# Altium footprint library Crystal.PcbLib: 10 footprints
Each footprint in its own frame and in the unit in brackets; x right, y up, seen from the top. Pads: shape width x height; smd on the part's side, far side on the other; paste and mask are expansions set on the pad; w line width, h text height; cw(c..) or ccw(c..) is an arc to the next point about the centre after c.
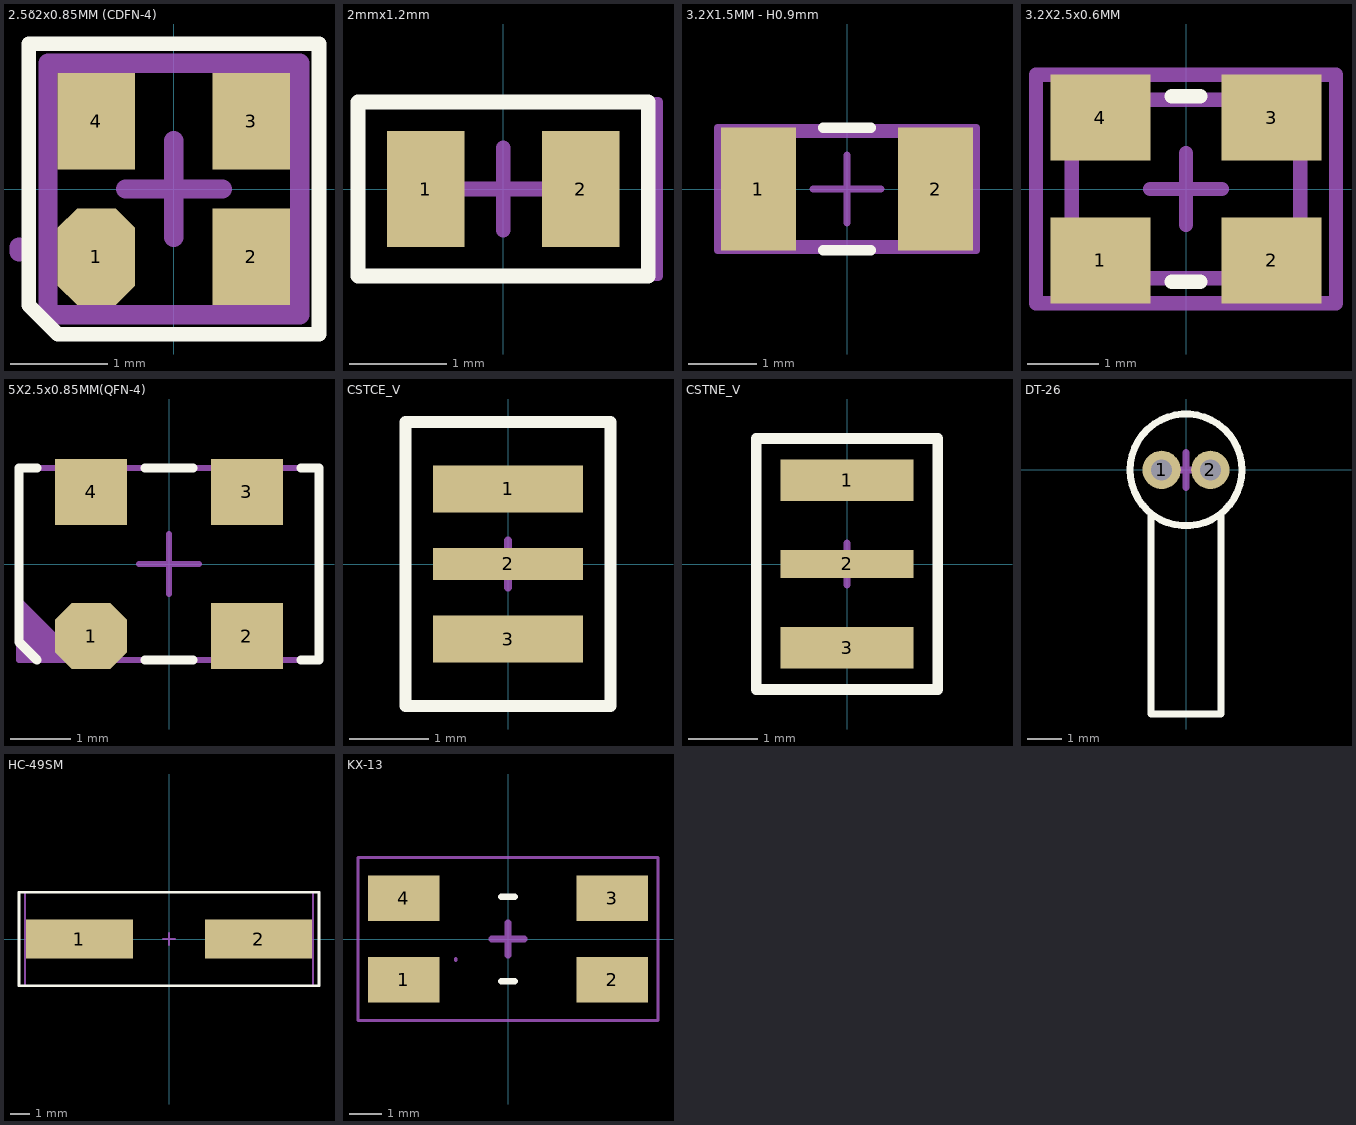
[diagram p0: the footprints below, top view; thin cyan lines are the x and y axes]

## 2.5õ2x0.85MM (CDFN-4) [mm]
pads (4):
  oct 0.8x1 smd: 1(-0.8,-0.7)
  rect 0.8x1 smd: 2(0.8,-0.7) 3(0.8,0.7) 4(-0.8,0.7)
Top Overlay:
  lines w0.153: -1.5,-1.2 -1.5,1.5 1.5,1.5 1.5,-1.5 -1.2,-1.5 -1.5,-1.2
Top Assembly:
  lines w0.2: -1.6,-0.65 -1.6,-0.6 ; -1.3,-1.3 -1.3,1.3 1.3,1.3 1.3,-1.3 -1.3,-1.3
  text ".Designator" at -1.1,-0.4 h1
Top Courtyard:
  lines w0.2: -0.5,0 0.5,0 ; 0,-0.5 0,0.5 ; -1.3,-1.3 -1.3,1.3 1.3,1.3 1.3,-1.3 -1.3,-1.3
3D body "User Library-ASDK_series_ABRACON.STEP": height 0.95, standoff 0, extent -1.25,-1 1.25,1

## 2mmx1.2mm [mm]
pads (2):
  rect 0.8x1.2 smd: 1(-0.8,0) 2(0.8,0)
Top Overlay:
  lines w0.153: -1.5,-0.9 -1.5,0.9 1.5,0.9 1.5,-0.9 -1.5,-0.9
Top Assembly:
  lines w0.1: -1.5,-0.9 -1.5,0.9 1.6,0.9 1.6,-0.9 -1.5,-0.9
  text "'.Designator'" at -4.532,-0.333 h0.8
Top Courtyard:
  lines w0.1: -1.5,-0.9 -1.5,0.9 1.5,0.9 1.5,-0.9 -1.5,-0.9
  lines w0.153: -0.425,0 0.425,0 ; 0,-0.425 0,0.425
3D body "ABS06-32.768KHZ-T--3DModel-STEP-400430.STEP": height 0.61, standoff 0, extent -1.003,-0.597 1.003,0.597

## 3.2X1.5MM - H0.9mm [mm] "ABS07 Series Crystal, Body 3.2x1.5mm 0.9mm hight"
height 0.9
pads (2):
  rect 1.1x1.8 smd: 1(-1.3,0) 2(1.3,0)
Top Overlay:
  lines w0.153: -0.35,-0.9 0.35,-0.9 ; -0.35,0.9 0.35,0.9
Top Assembly:
  lines w0.1: -1.7,-0.6 -1.5,-0.8 1.5,-0.8 1.7,-0.6 1.7,0.6 1.5,0.8 -1.5,0.8 -1.7,0.6 -1.7,-0.6
  text ".Designator" at -3.999,-0.267 h0.8
Top Courtyard:
  lines w0.1: -0.5,0 0.5,0 ; 0,-0.5 0,0.5 ; -1.9,-0.9 -1.9,0.9 1.9,0.9 1.9,-0.9 -1.9,-0.9
3D body "ABS07-120.STEP": height 0.89, standoff 0, extent -1.603,-0.752 1.603,0.752

## 3.2X2.5x0.6MM [mm]
pads (4):
  rect 1.4x1.2 smd: 1(-1.2,-1) 2(1.2,-1) 3(1.2,1) 4(-1.2,1)
Top Overlay:
  lines w0.2: -0.2,-1.3 0.2,-1.3 ; -0.2,1.3 0.2,1.3
Top Assembly:
  lines w0.2: -1.6,-0.65 -1.6,-0.6 ; -1.6,-1.25 1.6,-1.25 1.6,1.25 -1.6,1.25 -1.6,-1.25
  text ".Designator" at -1.1,-0.4 h1
Top Courtyard:
  lines w0.2: -0.5,0 0.5,0 ; 0,-0.5 0,0.5 ; -2.1,-1.6 2.1,-1.6 2.1,1.6 -2.1,1.6 -2.1,-1.6
3D body "User Library-tsx-3225.STEP": height 0.6, standoff 0, extent -1.6,-1.25 1.6,1.25

## 5X2.5x0.85MM(QFN-4) [mm]
pads (4):
  oct 1.2x1.1 smd: 1(-1.3,-1.2)
  rect 1.2x1.1 smd: 2(1.3,-1.2) 3(1.3,1.2) 4(-1.3,1.2)
Top Overlay:
  lines w0.153: -2.2,-1.6 -2.5,-1.3 -2.5,1.6 -2.2,1.6 ; -0.4,-1.6 0.4,-1.6 ; -0.4,1.6 0.4,1.6 ; 2.2,-1.6 2.5,-1.6 2.5,1.6 2.2,1.6
Top Assembly:
  region: -2.5,-1.6 -2.5,-0.6 -1.5,-1.6
  lines w0.1: -2.5,-0.6 -1.5,-1.6 ; -2.5,-1.6 2.5,-1.6 2.5,1.6 -2.5,1.6 -2.5,-1.6
  text ".Designator" at -3.999,-0.267 h0.8
Top Courtyard:
  lines w0.1: -0.5,0 0.5,0 ; 0,-0.5 0,0.5 ; -2.5,-1.6 2.5,-1.6 2.5,1.6 -2.5,1.6 -2.5,-1.6
3D body "User Library-ASFLM.STEP": height 0.86, standoff 0.01, extent -2.5,-1.6 2.5,1.6

## CSTCE_V [mm]
pads (3):
  rect 1.9x0.6 smd: 1(0,0.95) 3(0,-0.95)
  rect 1.9x0.4 smd: 2(0,0)
Top Overlay:
  lines w0.153: -1.3,-1.8 -1.3,1.8 1.3,1.8 1.3,-1.8 -1.3,-1.8
Top Assembly:
  lines w0.1: -1.3,-1.8 -1.3,1.8 1.3,1.8 1.3,-1.8 -1.3,-1.8
  text "'.Designator'" at -4.532,-0.333 h0.8
Top Courtyard:
  lines w0.1: -0.3,0 0.3,0 ; 0,-0.3 0,0.3 ; -1.3,-1.8 1.3,-1.8 1.3,1.8 -1.3,1.8 -1.3,-1.8
3D body "CSTCE16M0V53-R0.STEP": height 1, standoff 0, extent -0.65,-1.6 0.65,1.6

## CSTNE_V [mm]
pads (3):
  rect 1.9x0.6 smd: 1(0,1.2) 3(0,-1.2)
  rect 1.9x0.4 smd: 2(0,0)
Top Overlay:
  lines w0.153: -1.3,-1.8 1.3,-1.8 1.3,1.8 -1.3,1.8 -1.3,-1.8
Top Assembly:
  lines w0.1: -1.3,-1.8 1.3,-1.8 1.3,1.8 -1.3,1.8 -1.3,-1.8
  text "'.Designator'" at -4.532,-0.333 h0.8
Top Courtyard:
  lines w0.1: -0.3,0 0.3,0 ; 0,-0.3 0,0.3 ; -1.3,-1.8 -1.3,1.8 1.3,1.8 1.3,-1.8 -1.3,-1.8
3D body "CSTCE16M0V53-R0.STEP": height 1, standoff 0, extent -0.65,-1.6 0.65,1.6

## DT-26 [mm]
pads (2):
  round 1.1 hole 0.6: 1(-0.7,0) 2(0.7,0)
Top Overlay:
  circle w0.2: c0,0 r1.603
  lines w0.2: -1,-1.3 -1,-7 1,-7 1,-1.3
Top Assembly:
  circle w0.1: c0,0 r1.6
  lines w0.1: -1,-1.3 -1,-7 1,-7 1,-1.3
  text ".Designator" at -4.998,-0.333 h1
Top Courtyard:
  circle w0.1: c0,0 r1.6
  lines w0.1: -1,-1.3 -1,-7 1,-7 1,-1.3
  lines w0.2: -0.5,0 0.5,0 ; 0,-0.5 0,0.5
3D body "User Library-DT-26-1.step": height 3.49, standoff -0.5, extent -1,-7 1,0.14

## HC-49SM [mm]
pads (2):
  rect 5.5x2 smd: 1(-4.6,0) 2(4.6,0)
Top Overlay:
  lines w0.153: -7.7,-2.4 7.7,-2.4 7.7,2.4 -7.7,2.4 -7.7,-2.4
Top Assembly:
  lines w0.1: -7.4,-2.4 7.4,-2.4 7.4,2.4 -7.4,2.4 -7.4,-2.4
  text ".Designator" at -4.998,-0.333 h1
Top Courtyard:
  lines w0.1: -0.3,0 0.3,0 ; 0,-0.3 0,0.3 ; -7.4,-2.4 7.4,-2.4 7.4,2.4 -7.4,2.4 -7.4,-2.4
3D body "Crystal HC49_US-SM.step": height 4.3, standoff 0, extent -6.4,-2.415 6.4,2.415

## KX-13 [mm]
pads (4):
  rect 2.2x1.4 smd: 1(-3.2,-1.25) 2(3.2,-1.25) 3(3.2,1.25) 4(-3.2,1.25)
Top Overlay:
  lines w0.2: -0.2,-1.3 0.2,-1.3 ; -0.2,1.3 0.2,1.3
Top Assembly:
  lines w0.1: -1.6,-0.65 -1.6,-0.6 ; -4.6,-2.5 -4.6,2.5 4.6,2.5 4.6,-2.5 -4.6,-2.5
  text ".Designator" at -4.998,-0.333 h1
Top Courtyard:
  lines w0.1: -4.6,-2.5 -4.6,2.5 4.6,2.5 4.6,-2.5 -4.6,-2.5
  lines w0.2: -0.5,0 0.5,0 ; 0,-0.5 0,0.5
3D body "User Library-KX-13 7_0x5_0x1_3.step": height 1.3, standoff 0, extent -3.5,-2.5 3.5,2.5